# Altium footprint library Miscellaneous Model.PcbLib: 16 footprints
Each footprint in its own frame and in the unit in brackets; x right, y up, seen from the top. Pads: shape width x height; smd on the part's side, far side on the other; paste and mask are expansions set on the pad; w line width, h text height; cw(c..) or ccw(c..) is an arc to the next point about the centre after c.
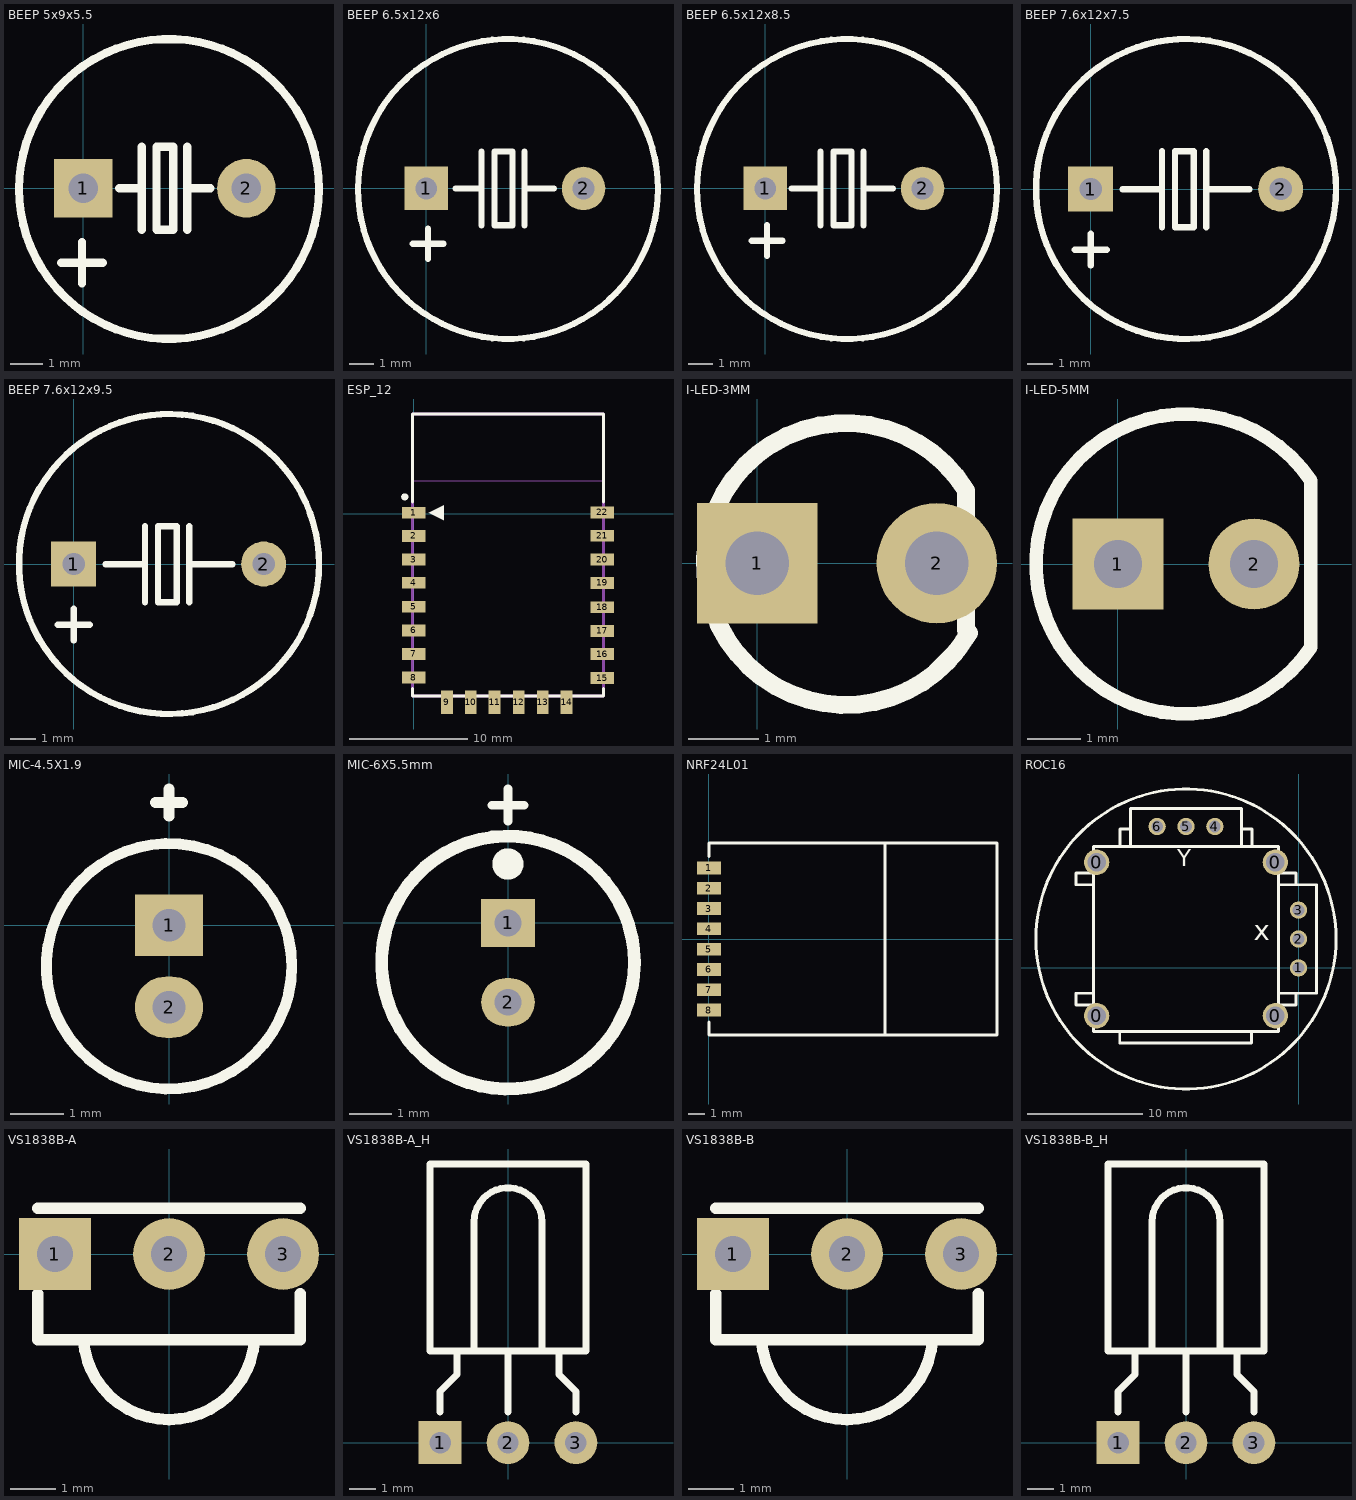
[diagram p0: the footprints below, top view; thin cyan lines are the x and y axes]

## BEEP 5x9x5.5 [mm]
pads (2):
  rect 1.8x1.8 hole 0.9: 1(0,0)
  round 1.8 hole 0.9: 2(5,0)
Top Overlay:
  circle w0.254: c2.627,-0.023 r4.6
  lines w0.254: -0.675,-2.286 0.595,-2.286 ; -0.04,-2.921 -0.04,-1.651 ; 1.103,0 1.791,0 ; 1.791,-1.27 1.791,1.27 ; 3.185,-1.27 3.185,1.27 ; 3.312,0 3.897,0 ; 2.246,-1.27 2.246,1.27 2.754,1.27 2.754,-1.27 2.246,-1.27
3D body "BEEP 5x9x5.5.STEP": height 5.45, standoff -3.55, extent -1.96,-4.445 7.04,4.555

## BEEP 6.5x12x6 [mm]
pads (2):
  rect 1.8x1.8 hole 0.9: 1(0,0)
  round 1.8 hole 0.9: 2(6.5,0)
Top Overlay:
  circle w0.254: c3.377,-0.023 r6.2
  lines w0.254: -0.56,-2.286 0.71,-2.286 ; 0.075,-2.921 0.075,-1.651 ; 1.218,0 2.287,0 ; 2.287,-1.524 2.287,1.524 ; 4.062,-1.524 4.062,1.524 ; 4.062,0 5.282,0 ; 2.812,-1.524 2.812,1.524 3.562,1.524 3.562,-1.524 2.812,-1.524
3D body "BEEP 6.5x12x6.STEP": height 6.05, standoff -3.25, extent -2.698,-5.969 9.302,6.031

## BEEP 6.5x12x8.5 [mm]
pads (2):
  rect 1.8x1.8 hole 0.9: 1(0,0)
  round 1.8 hole 0.9: 2(6.5,0)
Top Overlay:
  circle w0.254: c3.377,-0.023 r6.2
  lines w0.254: -0.56,-2.159 0.71,-2.159 ; 0.075,-2.794 0.075,-1.524 ; 1.091,0 2.287,0 ; 2.287,-1.524 2.287,1.524 ; 4.062,-1.524 4.062,1.524 ; 4.062,0 5.282,0 ; 2.812,-1.524 3.562,-1.524 3.562,1.524 2.812,1.524 2.812,-1.524
3D body "BEEP 6.5x12x8.5.STEP": height 8.55, standoff -3.25, extent -2.794,-6 9.206,6

## BEEP 7.6x12x7.5 [mm]
pads (2):
  rect 1.8x1.8 hole 0.9: 1(0,0)
  round 1.8 hole 0.9: 2(7.6,0)
Top Overlay:
  circle w0.254: c3.811,0 r6.001
  lines w0.254: -0.634,-2.424 0.636,-2.424 ; 0.001,-3.059 0.001,-1.789 ; 1.271,-0.011 2.848,-0.011 ; 2.848,-1.535 2.848,1.513 ; 4.623,-1.535 4.623,1.513 ; 4.623,-0.011 6.351,-0.011 ; 3.373,-1.535 4.123,-1.535 4.123,1.513 3.373,1.513 3.373,-1.535
3D body "BEEP 7.6x12x7.5.STEP": height 7.55, standoff -3.25, extent -2.19,-5.969 9.81,6.031

## BEEP 7.6x12x9.5 [mm]
pads (2):
  rect 1.8x1.8 hole 0.9: 1(0,0)
  round 1.8 hole 0.9: 2(7.6,0)
Top Overlay:
  circle w0.254: c3.811,0 r6.001
  lines w0.254: -0.634,-2.424 0.636,-2.424 ; 0.001,-3.059 0.001,-1.789 ; 1.271,-0.011 2.848,-0.011 ; 2.848,-1.535 2.848,1.513 ; 4.623,-1.535 4.623,1.513 ; 4.623,-0.011 6.351,-0.011 ; 3.373,-1.535 4.123,-1.535 4.123,1.513 3.373,1.513 3.373,-1.535
3D body "BEEP 7.6x12x9.5.STEP": height 9.55, standoff -3.25, extent -2.19,-5.969 9.81,6.031

## ESP_12 [mm]
height 10
pads (22):
  rect 2x1 smd: 1(0,0.074) 2(0,-1.896) 3(0,-3.896) 4(0,-5.866) 5(0,-7.906) 6(0,-9.916) 7(0,-11.906) 8(0,-13.916) 15(16,-13.956) 16(16,-11.916) 17(16,-9.956) 18(16,-7.936) 19(16,-5.876) 20(16,-3.896) 21(16,-1.876) 22(16,0.104)
  rect 1x2 smd: 9(2.814,-16.002) 10(4.846,-16.002) 11(6.858,-16.002) 12(8.91,-16.002) 13(10.942,-16.002) 14(12.974,-16.002)
Top Overlay:
  circle w0.3: c-0.762,1.43 r0.15
  region: 1.27,0.074 2.54,-0.561 2.54,0.709
  lines w0.254: -0.084,-14.842 -0.084,-15.494 16.084,-15.494 16.084,-14.842 ; -0.084,0.991 -0.084,8.445 16.084,8.445 16.084,0.991
Mechanical 13:
  lines w0.051: -0.127,2.802 -0.127,8.456 16.129,8.456 16.129,2.802 -0.127,2.802
  lines w0.254: -0.084,-15.494 16.084,-15.494 16.084,8.446 -0.084,8.446 -0.084,-15.494
3D body "EPS8266 ESP-12E.STEP": height 2.65, standoff -0.04, extent -0.004,-15.487 16.006,8.518

## I-LED-3MM [mm]
pads (2):
  rect 1.7x1.7 hole 0.9: 1(0,0)
  round 1.7 hole 0.9: 2(2.54,0)
Top Overlay:
  lines w0.254: 2.54,-1.524 2.794,-1.27 ; 2.955,-0.947 2.955,1.025 ccw(c1.254,-0.012) 2.992,-0.985

## I-LED-5MM [mm]
pads (2):
  rect 1.7x1.7 hole 0.9: 1(0,0)
  round 1.7 hole 0.9: 2(2.54,0)
Top Overlay:
  lines w0.254: 3.6,-1.553 cw(c1.27,0) 3.6,1.553 3.6,-1.553

## MIC-4.5X1.9 [mil]
pads (2):
  rect 50x45 hole 24: 1(0,0)
  oval 50x45 hole 24: 2(0,-60)
Top Overlay:
  circle w8: c0,-30 r90
  lines w8: -10,90 10,90 ; 0,80 0,100
3D body "MIC4.5X1.9.STEP": height 75.38, standoff -110.24, extent -88.58,-117.17 88.58,60

## MIC-6X5.5mm [mil]
pads (2):
  rect 50x45 hole 25: 1(0,0)
  oval 50x45 hole 25: 2(0,-74)
Top Overlay:
  circle w15: c0,55 r7.07
  circle w12: c0,-37 r118
  lines w8: -15,110 15,110 ; 0,95 0,125
3D body "MIC6X5.5.STEP": height 197.64, standoff -118.11, extent -120,-153.11 116.22,83.11

## NRF24L01 [mm]
pads (8):
  rect 1.5x0.8 smd: 1(0,4.445) 2(0,3.175) 3(0,1.905) 4(0,0.635) 5(0,-0.635) 6(0,-1.905) 7(0,-3.175) 8(0,-4.445)
Top Overlay:
  lines w0.2: 0,-5.2 0,-6 18,-6 18,6 0,6 ; 0,5.176 0,5.976 ; 11,-6 11,6
3D body: height 0.8, standoff 0, extent 0,-6 18.034,6

## ROC16 [mm]
pads (10):
  round 2.2 hole 1.6: 0(-17.5,-4.15) 0(-17.5,9.15) 0(-2,-4.15) 0(-2,9.15)
  round 1.5 hole 1: 1(0,0) 2(0,2.5) 3(0,5) 4(-7.25,12.25) 5(-9.75,12.25) 6(-12.25,12.25)
Top Overlay:
  circle w0.254: c-9.75,2.5 r13
  lines w0.254: -17.75,-3.215 -19.275,-3.215 -19.275,-2.199 -17.75,-2.199 ; -17.75,7.199 -19.275,7.199 -19.275,8.215 -17.75,8.215 ; -15.491,-5.528 -15.491,-6.517 -4.061,-6.517 -4.061,-5.527 -4.087,-5.553 ; -15.465,10.5 -15.465,12.025 -14.55,12.025 ; -14.55,10.5 -14.55,13.8 -4.95,13.8 -4.95,10.5 ; -4.95,11.644 -4.95,10.5 ; -4.95,12.025 -4.035,12.025 -4.035,10.5 ; -4.924,10.526 -4.95,10.5 ; -1.75,-3.215 -0.225,-3.215 -0.225,-2.199 ; -1.75,-2.199 -0.225,-2.199 ; -1.75,7.199 -0.225,7.199 ; -1.75,8.215 -0.225,8.215 -0.225,7.199 ; -0.225,-2.199 1.55,-2.199 1.551,0.075 ; -0.225,7.199 1.553,7.199 1.552,4.824 1.551,0.075 ; 1.551,0.075 1.551,0.075 ; -17.75,-5.5 -17.75,10.5 -1.75,10.5 -1.75,-5.5 -17.75,-5.5
  text "Y" at -10.512,8.342 h2.5
  text "x" at -3.883,1.763 h3
3D body "ROC16-.STEP": height 29.36, standoff -3.65, extent -22.25,-10.054 2.75,14.946

## VS1838B-A [mm]
pads (3):
  rect 1.6x1.6 hole 0.8: 1(-2.54,0)
  round 1.6 hole 0.8: 2(0,0) 3(2.54,0)
Top Overlay:
  lines w0.254: -2.921,-0.889 -2.921,-1.905 2.921,-1.905 2.921,-0.889 ; -2.921,1.016 2.921,1.016 ; -1.905,-1.905 ccw(c0,-1.778) 1.905,-1.905
3D body "VS1838B-A-.STEP": height 8.3, standoff -3.5, extent -2.713,-3.638 2.967,0.762

## VS1838B-A_H [mm]
pads (3):
  rect 1.6x1.6 hole 0.8: 1(-2.54,0)
  round 1.6 hole 0.8: 2(0,0) 3(2.54,0)
Top Overlay:
  lines w0.254: -2.54,1.143 -2.54,1.905 -1.905,2.54 -1.905,3.429 ; -1.27,3.429 -1.27,8.255 cw(c0,8.255) 1.27,8.255 1.27,3.429 ; 0,1.143 0,3.429 ; 1.905,3.429 1.905,2.54 2.54,1.905 2.54,1.143 ; -2.921,3.429 -2.921,10.414 2.921,10.414 2.921,3.429 -2.921,3.429
3D body "VS1838B-A_H-.STEP": height 4.4, standoff -3.5, extent -2.84,-0.254 2.84,10.246

## VS1838B-B [mm]
pads (3):
  rect 1.6x1.6 hole 0.8: 1(-2.54,0)
  round 1.6 hole 0.8: 2(0,0) 3(2.54,0)
Top Overlay:
  lines w0.254: -2.921,-0.889 -2.921,-1.905 2.921,-1.905 2.921,-0.889 ; -2.921,1.016 2.921,1.016 ; -1.905,-1.905 ccw(c0,-1.778) 1.905,-1.905
3D body "VS1838B-B-.STEP": height 8.65, standoff -3.5, extent -3.302,-3.947 3.498,1.153

## VS1838B-B_H [mm]
pads (3):
  rect 1.6x1.6 hole 0.8: 1(-2.54,0)
  round 1.6 hole 0.8: 2(0,0) 3(2.54,0)
Top Overlay:
  lines w0.254: -2.54,1.143 -2.54,1.905 -1.905,2.54 -1.905,3.429 ; -1.27,3.429 -1.27,8.255 cw(c0,8.255) 1.27,8.255 1.27,3.429 ; 0,1.143 0,3.429 ; 1.905,3.429 1.905,2.54 2.54,1.905 2.54,1.143 ; -2.921,3.429 2.921,3.429 2.921,10.414 -2.921,10.414 -2.921,3.429
3D body "VS1838B-B_H-.STEP": height 5.15, standoff -3.1, extent -3.371,-0.218 3.429,10.632